# Altium footprint library WE-RFI.PcbLib: 4 footprints
Each footprint in its own frame and in the unit in brackets; x right, y up, seen from the top. Pads: shape width x height; smd on the part's side, far side on the other; paste and mask are expansions set on the pad; w line width, h text height; cw(c..) or ccw(c..) is an arc to the next point about the centre after c.
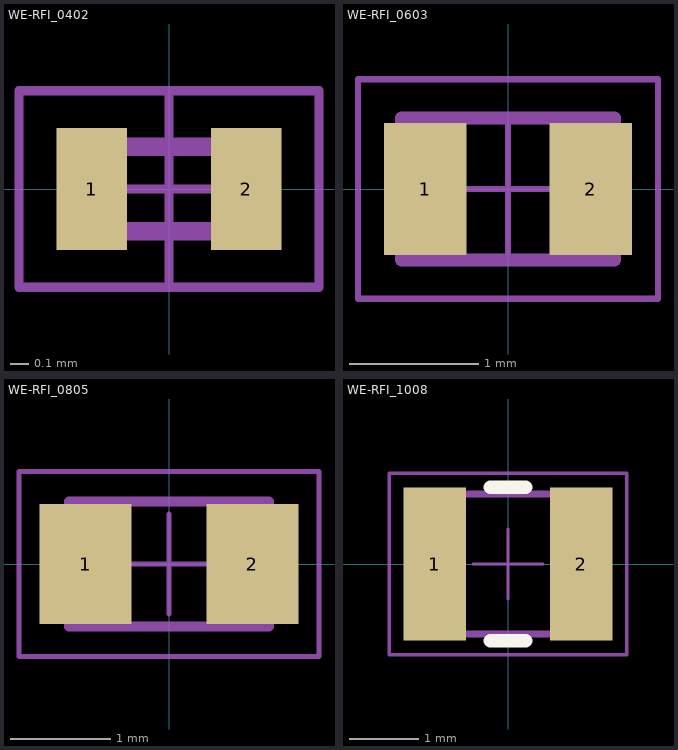
[diagram p0: the footprints below, top view; thin cyan lines are the x and y axes]

## WE-RFI_0402 [mm] "Ferrite SMT Inductor, body 1.00 x 0.55 mm"
height 0.55
pads (2):
  rect 0.375x0.65 smd: 1(-0.413,0) 2(0.413,0)
Top Component Outline:
  lines w0.1: -0.5,-0.225 -0.5,0.225 0.5,0.225 0.5,-0.225 -0.5,-0.225
Top Courtyard:
  lines w0.05: -0.8,-0.525 -0.8,0.525 0.8,0.525 0.8,-0.525 -0.8,-0.525
Top Component Center:
  lines w0.05: -0.5,0 0.5,0 ; 0,-0.5 0,0.5
Top Designator (Mech19):
  text ".Designator" at -2.499,-0.167 h0.5
3D body "0402_7447650xxx.stp": height 0.55, standoff 0, extent -0.5,-0.275 0.5,0.275

## WE-RFI_0603 [mm] "Ferrite SMT Inductor, body 1.65 x 1.10 mm"
height 0.9
pads (2):
  rect 0.64x1.02 smd: 1(-0.64,0) 2(0.64,0)
Top Component Outline:
  lines w0.1: -0.825,-0.55 -0.825,0.55 0.825,0.55 0.825,-0.55 -0.825,-0.55
Top Courtyard:
  lines w0.05: -1.16,-0.85 -1.16,0.85 1.16,0.85 1.16,-0.85 -1.16,-0.85
Top Component Center:
  lines w0.05: -0.5,0 0.5,0 ; 0,-0.5 0,0.5
Top Designator (Mech19):
  text ".Designator" at -2.499,-0.167 h0.5
3D body "0603_7447610xxx.stp": height 0.91, standoff 0.01, extent -0.825,-0.55 0.825,0.55

## WE-RFI_0805 [mm] "Ferrite SMD Inductor, body 2.00x1.25mm, 2-Leads"
height 1.4
pads (2):
  rect 0.92x1.2 smd: 1(-0.835,0) 2(0.835,0)
Top Component Outline:
  lines w0.1: -1,-0.625 1,-0.625 1,0.625 -1,0.625 -1,-0.625
Top Courtyard:
  lines w0.05: -1.5,-0.925 1.5,-0.925 1.5,0.925 -1.5,0.925 -1.5,-0.925
Top Component Center:
  lines w0.05: -0.5,0 0.5,0 ; 0,-0.5 0,0.5
Top Designator (Mech19):
  text ".Designator" at -2.499,-0.167 h0.5
3D body "0805_744760247A.stp": height 1.24, standoff -0.01, extent -1,-0.626 1,0.626

## WE-RFI_1008 [mm] "Ferrite SMD Inductor, body 2.50x2.00mm, 2-Leads"
height 1.8
pads (2):
  rect 0.9x2.2 smd: 1(-1.05,0) 2(1.05,0)
Top Overlay:
  lines w0.2: -0.25,-1.1 0.25,-1.1 ; -0.25,1.1 0.25,1.1
Top Component Outline:
  lines w0.1: -1.25,-1 1.25,-1 1.25,1 -1.25,1 -1.25,-1
Top Courtyard:
  lines w0.05: -1.7,-1.3 -1.7,1.3 1.7,1.3 1.7,-1.3 -1.7,-1.3
Top Component Center:
  lines w0.05: -0.5,0 0.5,0 ; 0,-0.5 0,0.5
Top Designator (Mech19):
  text ".Designator" at -3.499,-0.233 h0.7
3D body "1008_744762315A.stp": height 1.65, standoff -0.01, extent -1.25,-1.001 1.25,1.001